# Altium footprint library S-202T.PcbLib: 5 footprints
Each footprint in its own frame and in the unit in brackets; x right, y up, seen from the top. Pads: shape width x height; smd on the part's side, far side on the other; paste and mask are expansions set on the pad; w line width, h text height; cw(c..) or ccw(c..) is an arc to the next point about the centre after c.
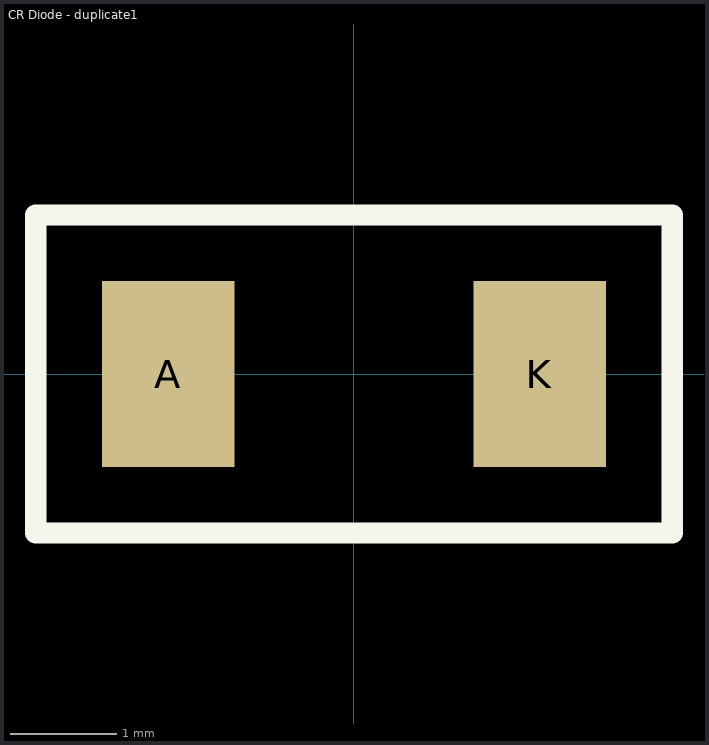
[diagram p0: the footprints below, top view; thin cyan lines are the x and y axes]

## CR Diode [mm]

## CR Diode - duplicate [mm]

## CR Diode - duplicate1 [mm]
pads (2):
  rect 1.25x1.75 smd: A(-1.75,0) K(1.75,0)
Top Overlay:
  lines w0.2: -3,-1.5 3,-1.5 3,1.5 -3,1.5 -3,0 -3,-1.5

## PCBComponent_1 [mm]

## PCBComponent_1 - duplicate [mm]